# Altium footprint library NSC Switcher.PcbLib: 116 footprints (part 8 of 8)
Each footprint in its own frame and in the unit in brackets; x right, y up, seen from the top. Pads: shape width x height; smd on the part's side, far side on the other; paste and mask are expansions set on the pad; w line width, h text height; cw(c..) or ccw(c..) is an arc to the next point about the centre after c.
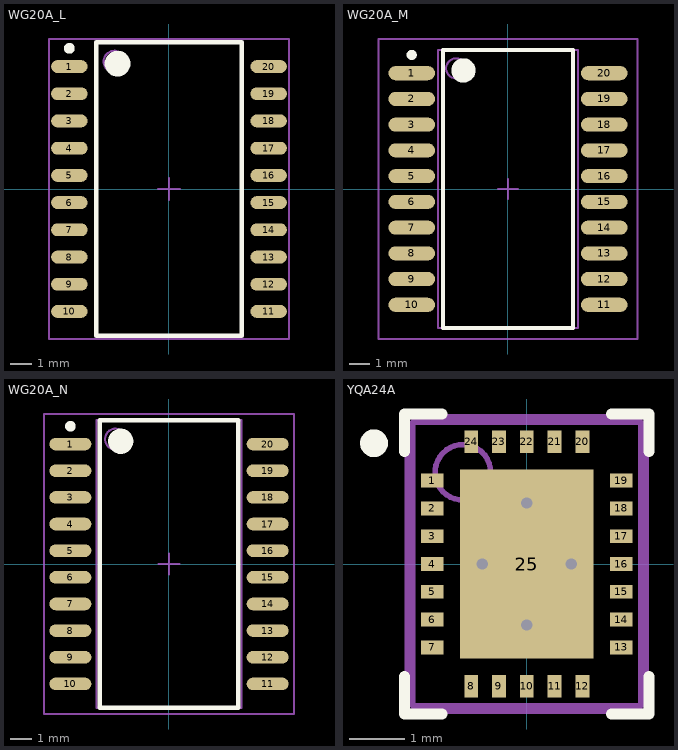
[diagram p7: the footprints below, top view; thin cyan lines are the x and y axes]

## WG20A_L [mm] "CERPACK, 20-Leads, Body 26.6x9.4mm, Pitch 1.27mm, IPC High Density"
height 2.5
pads (20):
  oval 1.7x0.6 smd: 1(-4.65,5.715) 2(-4.65,4.445) 3(-4.65,3.175) 4(-4.65,1.905) 5(-4.65,0.635) 6(-4.65,-0.635) 7(-4.65,-1.905) 8(-4.65,-3.175) 9(-4.65,-4.445) 10(-4.65,-5.715) 11(4.65,-5.715) 12(4.65,-4.445) 13(4.65,-3.175) 14(4.65,-1.905) 15(4.65,-0.635) 16(4.65,0.635) 17(4.65,1.905) 18(4.65,3.175) 19(4.65,4.445) 20(4.65,5.715)
Top Overlay:
  circle w0.25: c-4.65,6.565 r0.125
  circle w0.6: c-2.4,5.85 r0.3
  lines w0.2: -3.4,-6.85 -3.4,6.85 3.4,6.85 3.4,-6.85 -3.4,-6.85
Mechanical 13:
  circle w0.1: c-2.55,5.95 r0.5
  lines w0.1: -3.45,-6.85 -3.45,6.85 3.45,6.85 3.45,-6.85 -3.45,-6.85
Mechanical 15:
  lines w0.1: -0.5,0 0.5,0 ; 0,-0.5 0,0.5 ; -5.6,-7 -5.6,7 5.6,7 5.6,-7 -5.6,-7
3D body: height 2.5, standoff 0.1, extent -3.449,-6.849 3.449,6.849

## WG20A_M [mm] "CERPACK, 20-Leads, Body 26.6x9.4mm, Pitch 1.27mm, IPC Low Density"
height 2.5
pads (20):
  oval 2.3x0.7 smd: 1(-4.75,5.715) 2(-4.75,4.445) 3(-4.75,3.175) 4(-4.75,1.905) 5(-4.75,0.635) 6(-4.75,-0.635) 7(-4.75,-1.905) 8(-4.75,-3.175) 9(-4.75,-4.445) 10(-4.75,-5.715) 11(4.75,-5.715) 12(4.75,-4.445) 13(4.75,-3.175) 14(4.75,-1.905) 15(4.75,-0.635) 16(4.75,0.635) 17(4.75,1.905) 18(4.75,3.175) 19(4.75,4.445) 20(4.75,5.715)
Top Overlay:
  circle w0.6: c-2.2,5.85 r0.3
  circle w0.25: c-4.75,6.615 r0.125
  lines w0.2: -3.2,-6.85 3.2,-6.85 3.2,6.85 -3.2,6.85 -3.2,-6.85
Mechanical 13:
  circle w0.1: c-2.55,5.95 r0.5
  lines w0.1: -3.45,-6.85 3.45,-6.85 3.45,6.85 -3.45,6.85 -3.45,-6.85
Mechanical 15:
  lines w0.1: -0.5,0 0.5,0 ; 0,-0.5 0,0.5 ; -6.4,-7.4 6.4,-7.4 6.4,7.4 -6.4,7.4 -6.4,-7.4
3D body: height 2.5, standoff 0.1, extent -3.449,-6.849 3.449,6.849

## WG20A_N [mm] "CERPACK, 20-Leads, Body 26.6x9.4mm, Pitch 1.27mm, IPC Medium Density"
height 2.5
pads (20):
  oval 2x0.6 smd: 1(-4.7,5.715) 2(-4.7,4.445) 3(-4.7,3.175) 4(-4.7,1.905) 5(-4.7,0.635) 6(-4.7,-0.635) 7(-4.7,-1.905) 8(-4.7,-3.175) 9(-4.7,-4.445) 10(-4.7,-5.715) 11(4.7,-5.715) 12(4.7,-4.445) 13(4.7,-3.175) 14(4.7,-1.905) 15(4.7,-0.635) 16(4.7,0.635) 17(4.7,1.905) 18(4.7,3.175) 19(4.7,4.445) 20(4.7,5.715)
Top Overlay:
  circle w0.6: c-2.3,5.85 r0.3
  circle w0.25: c-4.7,6.565 r0.125
  lines w0.2: -3.3,-6.85 3.3,-6.85 3.3,6.85 -3.3,6.85 -3.3,-6.85
Mechanical 13:
  circle w0.1: c-2.55,5.95 r0.5
  lines w0.1: -3.45,-6.85 3.45,-6.85 3.45,6.85 -3.45,6.85 -3.45,-6.85
Mechanical 15:
  lines w0.1: -0.5,0 0.5,0 ; 0,-0.5 0,0.5 ; -5.95,-7.15 5.95,-7.15 5.95,7.15 -5.95,7.15 -5.95,-7.15
3D body: height 2.5, standoff 0.1, extent -3.449,-6.849 3.449,6.849

## YQA24A [mm] "PQFN, 24-Leads, Body 4x5mm, Pitch 0.5mm, NSC Recommended"
height 0.8
pads (25):
  rect 0.4x0.25 smd paste-0.2 mask+0.051: 1(-1.7,1.5) 2(-1.7,1) 3(-1.7,0.5) 4(-1.7,0) 5(-1.7,-0.5) 6(-1.7,-1) 7(-1.7,-1.5) 13(1.7,-1.5) 14(1.7,-1) 15(1.7,-0.5) 16(1.7,0) 17(1.7,0.5) 18(1.7,1) 19(1.7,1.5)
  rect 0.25x0.4 smd paste-0.2 mask+0.051: 8(-1,-2.2) 9(-0.5,-2.2) 10(0,-2.2) 11(0.5,-2.2) 12(1,-2.2) 20(1,2.2) 21(0.5,2.2) 22(0,2.2) 23(-0.5,2.2) 24(-1,2.2)
  rect 2.4x3.4 smd paste-1.2 mask+0.051: 25(0,0)
via -0.8,0 diameter 0.5 hole 0.2
via 0,-1.1 diameter 0.5 hole 0.2
via 0,1.1 diameter 0.5 hole 0.2
via 0.8,0 diameter 0.5 hole 0.2
Top Overlay:
  circle w0.25: c-2.75,2.175 r0.125
  lines w0.2: -2.2,-2.025 -2.2,-2.7 -1.525,-2.7 ; -2.2,2.025 -2.2,2.7 -1.525,2.7 ; 1.525,-2.7 2.2,-2.7 2.2,-2.025 ; 1.525,2.7 2.2,2.7 2.2,2.025
Top Paste:
  rectangle: 0.875,2.1 1.125,2.5
  rectangle: 0.375,2.1 0.625,2.5
  rectangle: -0.125,2.1 0.125,2.5
  rectangle: -0.625,2.1 -0.375,2.5
  region: -0.875,2.5 -1.125,2.5 -1.125,2.1 -0.875,2.1
  region: -0.875,-2.1 -1.125,-2.1 -1.125,-2.5 -0.875,-2.5
  rectangle: -0.625,-2.5 -0.375,-2.1
  rectangle: -0.125,-2.5 0.125,-2.1
  rectangle: 0.375,-2.5 0.625,-2.1
  region: 2,-1.375 1.6,-1.375 1.6,-1.625 2,-1.625
  region: 2,-0.875 1.6,-0.875 1.6,-1.125 2,-1.125
  region: 2,-0.375 1.6,-0.375 1.6,-0.625 2,-0.625
  region: 2,0.125 1.6,0.125 1.6,-0.125 2,-0.125
  region: 2,0.625 1.6,0.625 1.6,0.375 2,0.375
  region: 2,1.125 1.6,1.125 1.6,0.875 2,0.875
  region: 2,1.625 1.6,1.625 1.6,1.375 2,1.375
  rectangle: -2,1.375 -1.6,1.625
  rectangle: 0.15,0.15 1.1,1.6
  region: -0.15,1.6 -1.1,1.6 -1.1,0.15 -0.15,0.15
  region: -0.15,-0.15 -1.1,-0.15 -1.1,-1.6 -0.15,-1.6
  rectangle: 0.15,-1.6 1.1,-0.15
  rectangle: -2,0.875 -1.6,1.125
  rectangle: -2,0.375 -1.6,0.625
  rectangle: -2,-0.125 -1.6,0.125
  rectangle: -2,-0.625 -1.6,-0.375
  rectangle: -2,-1.125 -1.6,-0.875
  rectangle: -2,-1.625 -1.6,-1.375
  rectangle: 0.875,-2.5 1.125,-2.1
Mechanical 13:
  circle w0.1: c-1.15,1.65 r0.5
  lines w0.1: -2.05,-2.55 2.05,-2.55 2.05,2.55 -2.05,2.55 -2.05,-2.55
Mechanical 15:
  lines w0.1: -0.5,0 0.5,0 ; 0,-0.5 0,0.5 ; -2.15,-2.65 2.15,-2.65 2.15,2.65 -2.15,2.65 -2.15,-2.65
3D body: height 0.8, standoff 0, extent -2.05,-2.55 2.05,2.55